# Altium schematic symbol library DRV5032DUDBZR.SchLib: 1 symbol
Pins are listed as number, name and electrical type; pins without a type are passive.

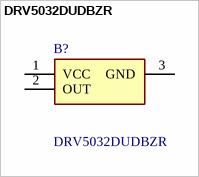
[diagram p0: symbol DRV5032DUDBZR]

## DRV5032DUDBZR
designator B?
Ultra-Low Power 1.65V to 5.5V Hall Effect Switch; Manufacturer_Name: Texas Instruments; Geometry.Height: 1.12mm; Mouser Part Number: 595-DRV5032DUDBZR; Mouser Price/Stock: https://www.mouser.co.uk/ProductDetail/Texas-Instruments/DRV5032DUDBZR?qs=j%252B1pi9TdxUb6MFt0w9FhKg%3D%3D; Manufacturer_Part_Number: DRV5032DUDBZR; Datasheet Link: http://www.ti.com/lit/gpn/DRV5032
footprint SOT95P237X112-3N
pins: 1 VCC (power), 2 OUT, 3 GND